# Altium footprint library MOSFET.PcbLib: 3 footprints
Each footprint in its own frame and in the unit in brackets; x right, y up, seen from the top. Pads: shape width x height; smd on the part's side, far side on the other; paste and mask are expansions set on the pad; w line width, h text height; cw(c..) or ccw(c..) is an arc to the next point about the centre after c.
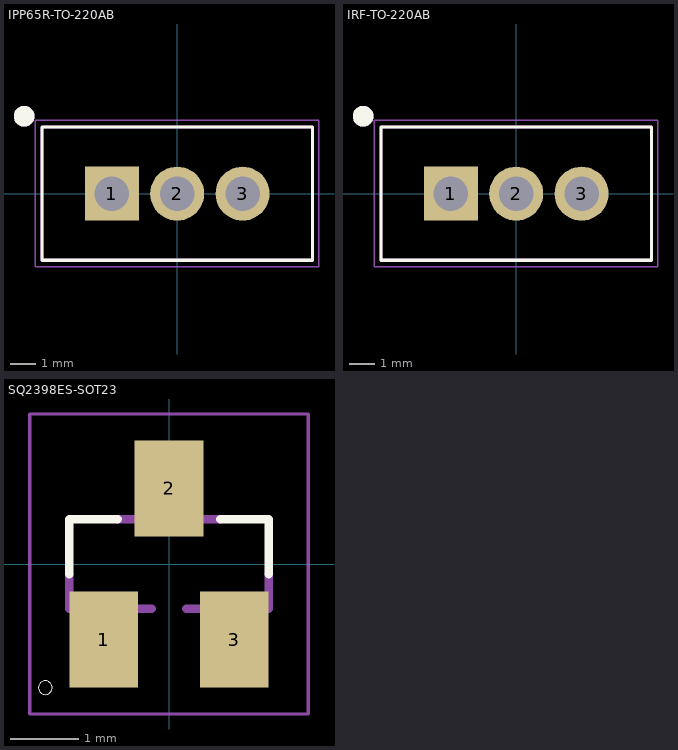
[diagram p0: the footprints below, top view; thin cyan lines are the x and y axes]

## IPP65R-TO-220AB [mm]
pads (3):
  rect 2.1x2.1 hole 1.34: 1(-2.54,0)
  round 2.1 hole 1.34: 2(0,0) 3(2.54,0)
Top Overlay:
  circle w0.4: c-5.95,3.01 r0.2
  lines w0.127: -5.26,-2.59 -5.26,2.59 5.26,2.59 5.26,-2.59 -5.26,-2.59
Mechanical 13:
  circle w0.4: c-5.95,3.01 r0.2
  lines w0.127: -5.26,-2.59 -5.26,2.59 5.26,2.59 5.26,-2.59 -5.26,-2.59
Mechanical 15:
  lines w0.05: -5.51,-2.845 5.51,-2.845 5.51,2.845 -5.51,2.845 -5.51,-2.845
3D body "to220ab-3_p2-54_l10-51_w4-65.stp": height 20.49, standoff -9.02, extent -5.306,-1.52 5.204,3.15

## IRF-TO-220AB [mm]
pads (3):
  rect 2.1x2.1 hole 1.34: 1(-2.54,0)
  round 2.1 hole 1.34: 2(0,0) 3(2.54,0)
Top Overlay:
  circle w0.4: c-5.95,3.01 r0.2
  lines w0.127: -5.26,-2.59 -5.26,2.59 5.26,2.59 5.26,-2.59 -5.26,-2.59
Mechanical 13:
  circle w0.4: c-5.95,3.01 r0.2
  lines w0.127: -5.26,-2.59 -5.26,2.59 5.26,2.59 5.26,-2.59 -5.26,-2.59
Mechanical 15:
  lines w0.05: -5.51,-2.845 5.51,-2.845 5.51,2.845 -5.51,2.845 -5.51,-2.845
3D body "to220ab-3_p2-54_l10-51_w4-65.stp": height 20.49, standoff -9.02, extent -5.306,-1.52 5.204,3.15

## SQ2398ES-SOT23 [mm]
pads (3):
  rect 1x1.4 smd: 1(-0.95,-1.1) 2(0,1.1) 3(0.95,-1.1)
Top Overlay:
  circle w0: c-1.8,-1.8 r0.1
  lines w0.127: -1.45,-0.15 -1.45,0.65 -0.75,0.65 ; 0.75,0.65 1.45,0.65 1.45,-0.15
Mechanical 13:
  region: 0.229,0.711 -0.229,0.711 -0.229,1.295 0.229,1.295
  region: 1.168,-1.296 0.712,-1.296 0.712,-0.711 1.168,-0.711
  region: -0.711,-1.298 -1.171,-1.298 -1.171,-0.711 -0.711,-0.711
  lines w0.127: -1.45,-0.15 -1.45,-0.65 -0.25,-0.65 ; -0.75,0.65 0.75,0.65 ; 0.25,-0.65 1.45,-0.65 1.45,-0.15
Mechanical 15:
  lines w0.051: -2.023,-2.183 2.023,-2.183 2.023,2.183 -2.023,2.183 -2.023,-2.183
3D body "MMBT3904.STEP": height 1.1, standoff 0, extent -1.45,-1.3 1.45,1.2